# EAGLE library part ATTINY44A (library cccamd)
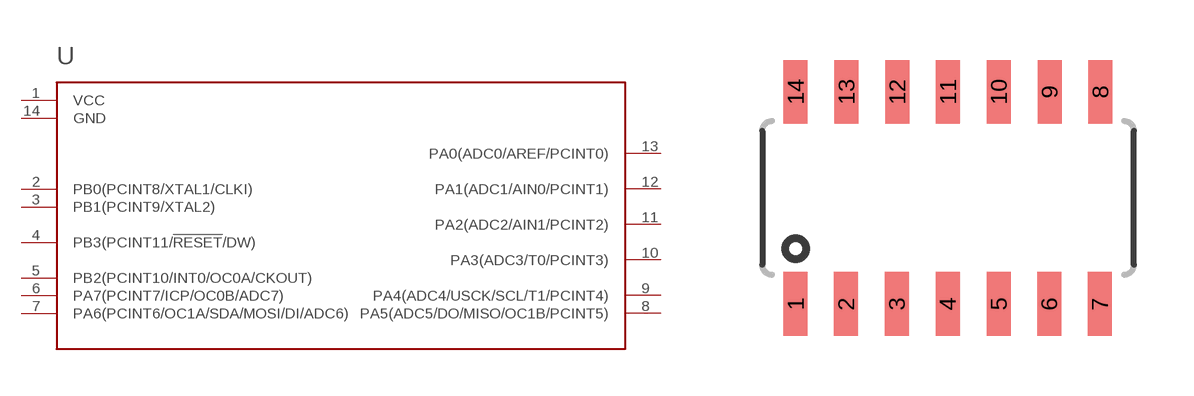
[diagram p0: symbol with the pads of 14S1; footprint 14S1]

Designator prefix -

## ATTINY44A  [14S1]
1  VCC  pwr
2  PB0(PCINT8/XTAL1/CLKI)
3  PB1(PCINT9/XTAL2)
4  PB3(PCINT11/!RESET!/DW)
5  PB2(PCINT10/INT0/OC0A/CKOUT)
6  PA7(PCINT7/ICP/OC0B/ADC7)
7  PA6(PCINT6/OC1A/SDA/MOSI/DI/ADC6)
8  PA5(ADC5/DO/MISO/OC1B/PCINT5)
9  PA4(ADC4/USCK/SCL/T1/PCINT4)
10  PA3(ADC3/T0/PCINT3)
11  PA2(ADC2/AIN1/PCINT2)
12  PA1(ADC1/AIN0/PCINT1)
13  PA0(ADC0/AREF/PCINT0)
14  GND  pwr

## Footprint 14S1 (pad centres in mm)
14S1 14-lead (0.150" Wide Body) Plastic Gull Wing Small Outline (JEDEC SOIC)
smd 0.6 x 1.6: 1 -3.81,-2.654; 2 -2.55,-2.654; 3 -1.28,-2.654; 4 -0.01,-2.654; 5 1.27,-2.654; 6 2.53,-2.654; 7 3.8,-2.654; 8 3.81,2.654; 9 2.54,2.654; 10 1.27,2.654; 11 0,2.654; 12 -1.27,2.654; 13 -2.54,2.654; 14 -3.81,2.654